# Altium footprint library I2C_LCD.PcbLib: 1 footprints
Each footprint in its own frame and in the unit in brackets; x right, y up, seen from the top. Pads: shape width x height; smd on the part's side, far side on the other; paste and mask are expansions set on the pad; w line width, h text height; cw(c..) or ccw(c..) is an arc to the next point about the centre after c.
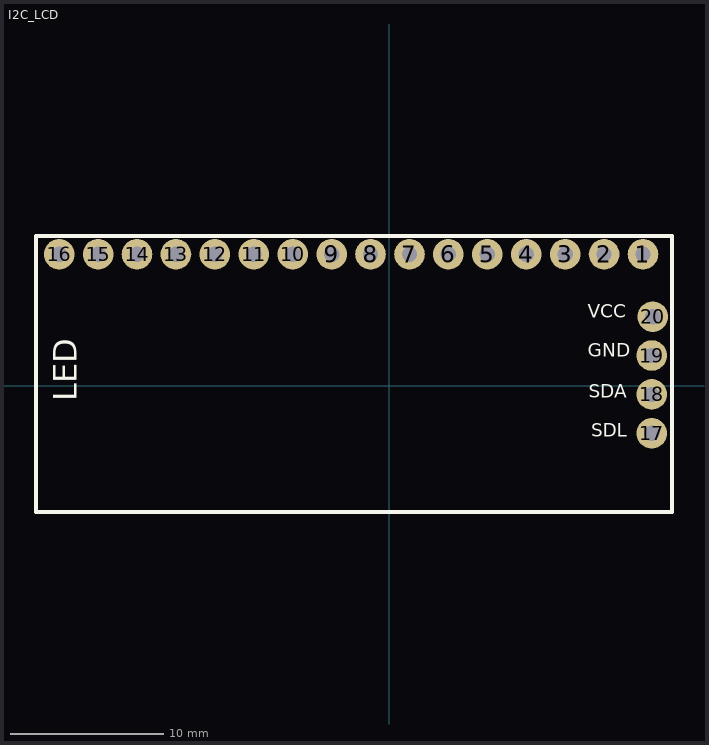
[diagram p0: the footprint, top view; thin cyan lines are the x and y axes]

## I2C_LCD [mm]
pads (20):
  round 2 hole 1: 1(16.573,8.572) 2(14.034,8.572) 3(11.493,8.572) 4(8.954,8.572) 5(6.413,8.572) 6(3.873,8.572) 7(1.333,8.572) 8(-1.206,8.572) 9(-3.746,8.572) 10(-6.286,8.572) 11(-8.826,8.572) 12(-11.367,8.572) 13(-13.906,8.572) 14(-16.447,8.572) 15(-18.986,8.572) 16(-21.526,8.572) 17(17.145,-3.111) 18(17.145,-0.572) 19(17.145,1.968) 20(17.209,4.508)
Top Overlay:
  lines w0.254: -23.05,-8.255 18.479,-8.255 18.479,9.779 -23.05,9.779 -23.05,-8.255
  text "LED" at -20.383,-1.016 h1.52
  text "VCC" at 12.954,4.127 h1.52
  text "GND" at 12.954,1.587 h1.52
  text "SDA" at 13.018,-1.079 h1.52
  text "SDL" at 13.208,-3.619 h1.52
3D body "User Library-I2C LCD Adapter PCF8574.step": height 5.85, standoff -7.3, extent -23.036,-8.238 18.464,9.762